# EAGLE library part *32 (library digital)
74xx32: Quad 2-input OR gate
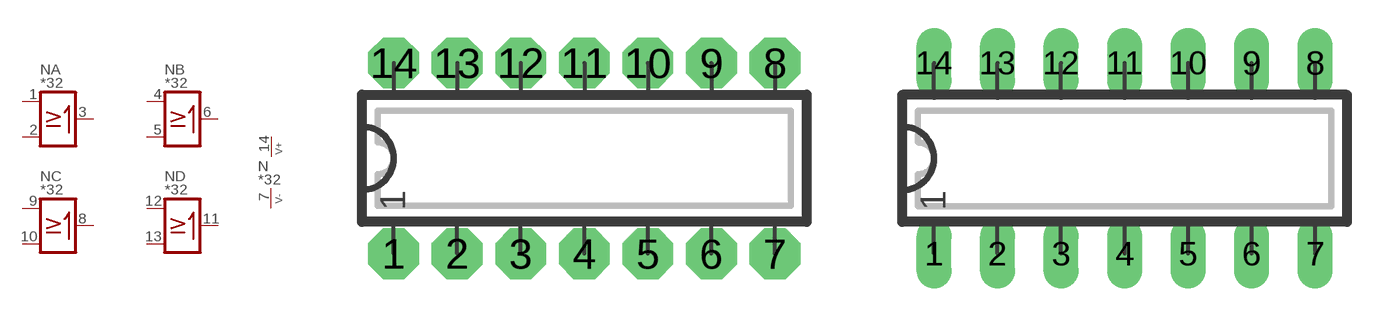
[diagram p27: symbol with the pads of DIP14N; footprints DIP14N, DIP14L]

Designator prefix N; gates A=OR2 C=OR2 B=OR2 D=OR2 P=V+-

## 7432N, 74AC32N, 74ACT32N, 74ALS32N, 74AS32N, 74C32N, 74HC32N, 74HCT32N, 74LS32N, 74S32N  [DIP14N]
1  A:I1  in
2  A:I2  in
3  A:O  out
4  B:I1  in
5  B:I2  in
6  B:O  out
7  P:V-  pwr
8  C:O  out
9  C:I1  in
10  C:I2  in
11  D:O  out
12  D:I1  in
13  D:I2  in
14  P:V+  pwr

## 7432, 74AC32, 74ACT32, 74ALS32, 74AS32, 74C32, 74HC32, 74HCT32, 74LS32, 74S32  [DIP14L]
Pads as for DIP14N

## 7432L, 74AC32L, 74ACT32L, 74ALS32L, 74AS32L, 74C32L, 74HC32L, 74HCT32L, 74LS32L, 74S32L  [DIP14L]
Pads as for DIP14N

## 7432R, 74AC32R, 74ACT32R, 74ALS32R, 74AS32R, 74C32R, 74HC32R, 74HCT32R, 74LS32R, 74S32R  [DIP14R]
Pads as for DIP14N

## 74LCX32S  [SO14]
Pads as for DIP14N

## Footprint DIP14N (pad centres in mm)
DIP-14 Standard IC package, 14 pins
drill 0.813 pad 2.032 octagon: 1 0,0; 2 2.54,0; 3 5.08,0; 4 7.62,0; 5 10.16,0; 6 12.7,0; 7 15.24,0; 8 15.24,7.62; 9 12.7,7.62; 10 10.16,7.62; 11 7.62,7.62; 12 5.08,7.62; 13 2.54,7.62; 14 0,7.62

## Footprint DIP14L (pad centres in mm)
DIP-14, long pads Standard IC package, 14 pins
drill 0.813 pad 1.397 long: 1 0,0; 2 2.54,0; 3 5.08,0; 4 7.62,0; 5 10.16,0; 6 12.7,0; 7 15.24,0; 8 15.24,7.62; 9 12.7,7.62; 10 10.16,7.62; 11 7.62,7.62; 12 5.08,7.62; 13 2.54,7.62; 14 0,7.62

## Footprint DIP14R (pad centres in mm)
DIP-14, reduced pads Standard IC package, 14 pins
drill 0.813 pad 1.397 square: 1 0,0; 2 2.54,0; 3 5.08,0; 4 7.62,0; 5 10.16,0; 6 12.7,0; 7 15.24,0; 8 15.24,7.62; 9 12.7,7.62; 10 10.16,7.62; 11 7.62,7.62; 12 5.08,7.62; 13 2.54,7.62; 14 0,7.62

## Footprint SO14 (pad centres in mm)
SO-14, SMD SOIC IC package, 14 pins
smd 0.635 x 1.778: 1 -3.81,-2.857; 2 -2.54,-2.857; 3 -1.27,-2.857; 4 0,-2.857; 5 1.27,-2.857; 6 2.54,-2.857; 7 3.81,-2.857; 8 3.81,2.857; 9 2.54,2.857; 10 1.27,2.857; 11 0,2.857; 12 -1.27,2.857; 13 -2.54,2.857; 14 -3.81,2.857